# Altium footprint library SamacSys.PcbLib: 49 footprints (part 1 of 4)
Each footprint in its own frame and in the unit in brackets; x right, y up, seen from the top. Pads: shape width x height; smd on the part's side, far side on the other; paste and mask are expansions set on the pad; w line width, h text height; cw(c..) or ccw(c..) is an arc to the next point about the centre after c.
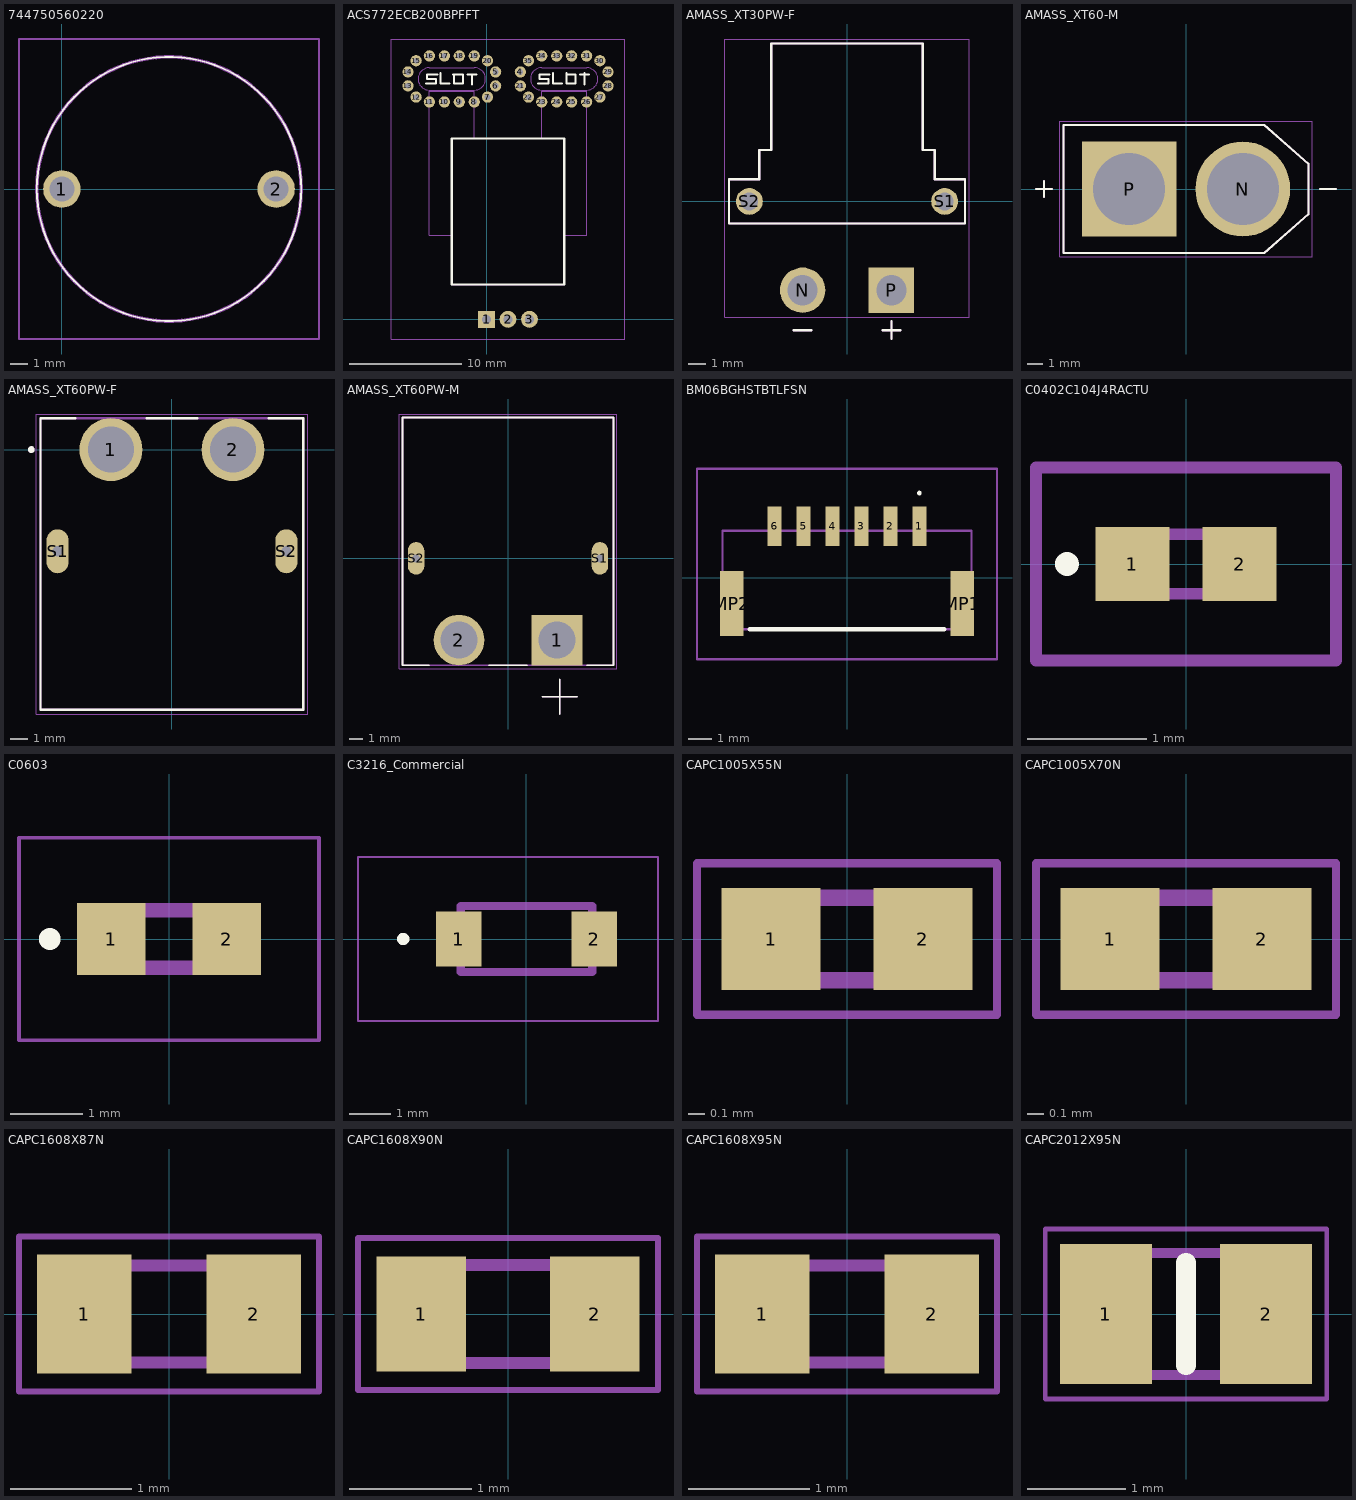
[diagram p0: the footprints below, top view; thin cyan lines are the x and y axes]

## 744750560220 [mm]
pads (2):
  round 2.1 hole 1.4: 1(0,0) 2(12,0)
Top Overlay:
  lines w0.1: -1.4,0 ccw(c6,0) 13.4,0 ccw(c6,0) -1.4,0
Mechanical 13:
  lines w0.2: -1.4,0 ccw(c6,0) 13.4,0 ccw(c6,0) -1.4,0
Mechanical 15:
  lines w0.1: -2.4,-8.4 14.4,-8.4 14.4,8.4 -2.4,8.4 -2.4,-8.4
3D body "744750560220.stp": height 15.9, standoff -5, extent -1.4,-7.4 13.4,7.4

## ACS772ECB200BPFFT [mm]
pads (35):
  rect 1.5x1.5 hole 0.8: 1(0,0)
  round 1.5 hole 0.8: 2(1.91,0) 3(3.82,0)
  round 1 hole 0.5: 4(3.008,22.018) 5(0.812,22.018) 6(0.812,20.782) 7(0.086,19.782) 8(-1.09,19.35) 9(-2.423,19.35) 10(-3.757,19.35) 11(-5.09,19.35) 12(-6.266,19.782) 13(-6.992,20.782) 14(-6.992,22.018) 15(-6.266,23.018) 16(-5.09,23.45) 17(-3.757,23.45) 18(-2.423,23.45) 19(-1.09,23.45) 20(0.086,23.018) 21(3.008,20.782) 22(3.734,19.782) 23(4.91,19.35) 24(6.243,19.35) 25(7.577,19.35) 26(8.91,19.35) 27(10.086,19.782) 28(10.812,20.782) 29(10.812,22.018) 30(10.086,23.018) 31(8.91,23.45) 32(7.577,23.45) 33(6.243,23.45) 34(4.91,23.45) 35(3.734,23.018)
Top Overlay:
  lines w0.2: -5.39,21 -4.49,21 -4.49,21.4 -5.29,21.4 -5.29,21.8 -4.39,21.8 ; -4.09,21.9 -4.09,21 -3.29,21 ; -2.99,21.8 -2.09,21.8 -2.09,21 -2.89,21 -2.89,21.8 ; -1.69,21.8 -0.89,21.8 ; -1.29,20.9 -1.29,21.8 ; 4.61,21 5.51,21 5.51,21.4 4.71,21.4 4.71,21.8 5.61,21.8 ; 5.91,21.9 5.91,21 6.71,21 ; 7.11,21.8 7.91,21.8 7.91,21 7.11,21 7.11,21.9 ; 8.31,21.8 9.11,21.8 ; 8.71,20.9 8.71,21.9 ; -3.09,3.1 6.91,3.1 6.91,16.1 -3.09,16.1 -3.09,3.1
Mechanical 13:
  lines w0.1: -3.09,7.5 -5.09,7.5 -5.09,20.3 -1.09,20.3 -1.09,16.1 ; 4.91,16.1 4.91,20.3 8.91,20.3 8.91,7.5 6.91,7.5 ; -5.09,20.4 cw(c-5.09,21.4) -5.09,22.4 -1.09,22.4 cw(c-1.09,21.4) -1.09,20.4 -5.09,20.4 ; -3.09,3.1 6.91,3.1 6.91,16.1 -3.09,16.1 -3.09,3.1 ; 4.91,20.4 cw(c4.91,21.4) 4.91,22.4 8.91,22.4 cw(c8.91,21.4) 8.91,20.4 4.91,20.4
Mechanical 15:
  lines w0.1: -8.492,-1.75 12.312,-1.75 12.312,24.95 -8.492,24.95 -8.492,-1.75
3D body "ACS770KCB-150U-PFF-T.stp": height 6.97, standoff -3.57, extent -5.062,-0.484 8.938,22.333

## AMASS_XT30PW-F [mm]
height 5
pads (4):
  round 2.55 hole 1.7: N(-2.5,-5)
  rect 2.55x2.55 / inner round 2.55 / far side rect 2.55x2.55 hole 1.7: P(2.5,-5)
  round 1.508 hole 1: S1(5.5,0) S2(-5.5,0)
Top Overlay:
  lines w0.127: -3,-7.25 -2,-7.25 ; 2,-7.25 3,-7.25 ; 2.5,-7.75 2.5,-6.75 ; -6.65,-1.25 -6.65,1.25 -4.95,1.25 -4.95,2.9 -4.27,2.9 -4.27,8.9 4.27,8.9 4.27,2.9 4.95,2.9 4.95,1.25 6.65,1.25 6.65,-1.25 -6.65,-1.25
Mechanical 13:
  lines w0.127: -3,-7.25 -2,-7.25 ; 2,-7.25 3,-7.25 ; 2.5,-7.75 2.5,-6.75 ; -6.65,-1.25 -6.65,1.25 -4.95,1.25 -4.95,2.9 -4.27,2.9 -4.27,8.9 4.27,8.9 4.27,2.9 4.95,2.9 4.95,1.25 6.65,1.25 6.65,-1.25 -6.65,-1.25
Mechanical 15:
  lines w0.05: -6.9,-6.525 -6.9,9.15 6.9,9.15 6.9,-6.525 -6.9,-6.525
3D body "step_temp.STEP": height 5, standoff -2, extent -6.65,-6 6.65,8.9

## AMASS_XT60-M [mm]
height 16
pads (2):
  round 6 hole 4.55: N(3.6,0)
  rect 6x6 / inner round 6 / far side rect 6x6 hole 4.55: P(-3.6,0)
Top Overlay:
  lines w0.127: -9.5,0 -8.5,0 ; -9,-0.5 -9,0.5 ; 8.5,0 9.5,0 ; -7.75,-4.05 4.95,-4.05 7.75,-1.6 7.75,1.6 4.95,4.05 -7.75,4.05 -7.75,-4.05
Mechanical 13:
  lines w0.127: -9.5,0 -8.5,0 ; -9,-0.5 -9,0.5 ; 8.5,0 9.5,0 ; -7.75,-4.05 4.95,-4.05 7.75,-1.6 7.75,1.6 4.95,4.05 -7.75,4.05 -7.75,-4.05
Mechanical 15:
  lines w0.05: -8,-4.3 -8,4.3 8,4.3 8,-4.3 -8,-4.3
3D body "step_temp.STEP": height 16, standoff -4.5, extent -7.75,-4.05 7.75,4.05

## AMASS_XT60PW-F [mm]
height 8.4
pads (4):
  round 3.716 hole 2.7: 1(-3.6,0) 2(3.6,0)
  oval 1.3x2.6 hole 0.6 square: S1(-6.75,-6) S2(6.75,-6)
Top Overlay:
  circle w0.2: c-8.3,0 r0.1
  lines w0.127: -5.71,1.85 -7.75,1.85 -7.75,-15.35 7.75,-15.35 7.75,1.85 5.71,1.85 ; -1.49,1.85 1.49,1.85
Mechanical 13:
  circle w0.2: c-8.3,0 r0.1
  lines w0.127: -7.75,-15.35 7.75,-15.35 7.75,1.85 -7.75,1.85 -7.75,-15.35
Mechanical 15:
  lines w0.05: -8,-15.6 8,-15.6 8,2.1 -8,2.1 -8,-15.6
3D body "step_temp.STEP": height 8.4, standoff -2.55, extent -7.75,-15.35 7.75,1.85

## AMASS_XT60PW-M [mm]
height 8.4
pads (4):
  rect 3.716x3.716 / inner round 3.716 / far side rect 3.716x3.716 hole 2.7: 1(3.6,-6)
  round 3.716 hole 2.7: 2(-3.6,-6)
  oval 1.2x2.4 hole 0.6 square: S1(6.75,0) S2(-6.75,0)
Top Overlay:
  lines w0.127: -5.778,-7.85 -7.75,-7.85 -7.75,10.35 7.75,10.35 7.75,-7.85 5.778,-7.85 ; -1.422,-7.85 1.422,-7.85 ; 2.54,-10.16 3.81,-10.16 ; 3.81,-11.43 3.81,-10.16 ; 3.81,-8.89 3.81,-10.16 ; 5.08,-10.16 3.81,-10.16
Mechanical 13:
  lines w0.127: 2.54,-10.16 3.81,-10.16 ; 3.81,-11.43 3.81,-10.16 ; 3.81,-8.89 3.81,-10.16 ; 5.08,-10.16 3.81,-10.16 ; -7.75,-7.85 7.75,-7.85 7.75,10.35 -7.75,10.35 -7.75,-7.85
Mechanical 15:
  lines w0.05: -8,-8.11 8,-8.11 8,10.6 -8,10.6 -8,-8.11
3D body "step_temp.STEP": height 8.4, standoff -2.55, extent -7.75,-7.85 7.75,10.35

## BM06BGHSTBTLFSN [mm]
pads (8):
  rect 0.6x1.7 smd: 1(3.125,2.225) 2(1.875,2.225) 3(0.625,2.225) 4(-0.625,2.225) 5(-1.875,2.225) 6(-3.125,2.225)
  rect 1x2.8 smd: MP1(4.975,-1.125) MP2(-4.975,-1.125)
Top Overlay:
  lines w0.1: 3.125,3.6 ccw(c3.125,3.65) 3.125,3.7 ccw(c3.125,3.65) 3.125,3.6
  lines w0.2: -4.2,-2.225 4.2,-2.225
Mechanical 13:
  lines w0.1: -5.375,-2.225 5.375,-2.225 5.375,2.025 -5.375,2.025 -5.375,-2.225
Mechanical 15:
  lines w0.1: -6.475,-3.525 6.475,-3.525 6.475,4.7 -6.475,4.7 -6.475,-3.525
3D body "BM06B-GHS-TBT_LF__SN_.stp": height 4.21, standoff 0, extent -5.37,-2.245 5.38,2.705

## C0402C104J4RACTU [mm]
pads (2):
  rect 0.62x0.62 smd: 1(-0.45,0) 2(0.45,0)
Top Overlay:
  lines w0.1: -1,-0.05 cw(c-1,0) -1,0.05 cw(c-1,0) -1,-0.05
Mechanical 13:
  lines w0.1: -0.5,-0.25 0.5,-0.25 0.5,0.25 -0.5,0.25 -0.5,-0.25
Mechanical 15:
  lines w0.1: -1.26,-0.81 1.26,-0.81 1.26,0.81 -1.26,0.81 -1.26,-0.81
3D body "C0402C471J5GACTU.stp": height 0.55, standoff 0, extent -0.52,-0.28 0.53,0.27

## C0603 [mm]
pads (2):
  rect 0.95x1 smd: 1(-0.8,0) 2(0.8,0)
Top Overlay:
  circle w0.2: c-1.65,0 r0.05
Mechanical 13:
  lines w0.2: -0.8,-0.4 -0.8,0.4 0.8,0.4 0.8,-0.4 -0.8,-0.4
Mechanical 15:
  lines w0.05: -2.075,-1.4 -2.075,1.4 2.075,1.4 2.075,-1.4 -2.075,-1.4
3D body "C0603C103K5RACTU.stp": height 0.87, standoff 0, extent -0.87,-0.48 0.88,0.47

## C3216_Commercial [mm]
pads (2):
  rect 1.1x1.35 smd: 1(-1.65,0) 2(1.65,0)
Top Overlay:
  circle w0.2: c-3,0 r0.05
Mechanical 13:
  lines w0.2: -1.6,-0.8 -1.6,0.8 1.6,0.8 1.6,-0.8 -1.6,-0.8
Mechanical 15:
  lines w0.05: -4.1,-2 -4.1,2 3.2,2 3.2,-2 -4.1,-2
3D body "C3216C0G2J222J115AA.stp": height 1.6, standoff 0, extent -1.65,-0.8 1.55,0.8

## CAPC1005X55N [mm]
pads (2):
  rect 0.6x0.62 smd: 1(-0.46,0) 2(0.46,0)
Mechanical 13:
  lines w0.1: -0.5,-0.25 0.5,-0.25 0.5,0.25 -0.5,0.25 -0.5,-0.25
Mechanical 15:
  lines w0.05: -0.91,-0.46 0.91,-0.46 0.91,0.46 -0.91,0.46 -0.91,-0.46
3D body "GJM1555C1H4R6BB01D.stp": height 0.55, standoff 0, extent -0.5,-0.25 0.5,0.25

## CAPC1005X70N [mm]
pads (2):
  rect 0.6x0.62 smd: 1(-0.46,0) 2(0.46,0)
Mechanical 13:
  lines w0.1: -0.5,-0.25 0.5,-0.25 0.5,0.25 -0.5,0.25 -0.5,-0.25
Mechanical 15:
  lines w0.05: -0.91,-0.46 0.91,-0.46 0.91,0.46 -0.91,0.46 -0.91,-0.46
3D body "GRM155R71C103KA01D.stp": height 0.5, standoff 0, extent -0.5,-0.25 0.5,0.25

## CAPC1608X87N [mm]
pads (2):
  rect 0.78x0.98 smd: 1(-0.7,0) 2(0.7,0)
Mechanical 13:
  lines w0.1: -0.8,-0.4 -0.8,0.4 0.8,0.4 0.8,-0.4 -0.8,-0.4
Mechanical 15:
  lines w0.05: -1.24,-0.64 -1.24,0.64 1.24,0.64 1.24,-0.64 -1.24,-0.64
3D body "C0603C220J5GACTU.stp": height 0.87, standoff 0, extent -0.87,-0.48 0.88,0.47

## CAPC1608X90N [mm]
pads (2):
  rect 0.73x0.94 smd: 1(-0.71,0) 2(0.71,0)
Mechanical 13:
  lines w0.1: -0.8,-0.4 0.8,-0.4 0.8,0.4 -0.8,0.4 -0.8,-0.4
Mechanical 15:
  lines w0.05: -1.225,-0.62 1.225,-0.62 1.225,0.62 -1.225,0.62 -1.225,-0.62
3D body "CL10A475KP8NNNC.stp": height 0.9, standoff 0, extent -0.8,-0.4 0.8,0.4

## CAPC1608X95N [mm]
pads (2):
  rect 0.78x0.98 smd: 1(-0.7,0) 2(0.7,0)
Mechanical 13:
  lines w0.1: -0.8,-0.4 -0.8,0.4 0.8,0.4 0.8,-0.4 -0.8,-0.4
Mechanical 15:
  lines w0.05: -1.24,-0.64 -1.24,0.64 1.24,0.64 1.24,-0.64 -1.24,-0.64
3D body "C0603C104K5RACTU7042.stp": height 0.87, standoff 0, extent -0.87,-0.48 0.88,0.47

## CAPC2012X95N [mm]
pads (2):
  rect 0.94x1.43 smd: 1(-0.82,0) 2(0.82,0)
Top Overlay:
  lines w0.2: 0,-0.525 0,0.525
Mechanical 13:
  lines w0.1: -1,-0.625 -1,0.625 1,0.625 1,-0.625 -1,-0.625
Mechanical 15:
  lines w0.05: -1.44,-0.87 -1.44,0.87 1.44,0.87 1.44,-0.87 -1.44,-0.87
3D body "CL21A475KLCLQNC.stp": height 0.95, standoff 0, extent -1,-0.625 1,0.625